# Altium footprint library PROPCB.PcbLib: 4 footprints
Each footprint in its own frame and in the unit in brackets; x right, y up, seen from the top. Pads: shape width x height; smd on the part's side, far side on the other; paste and mask are expansions set on the pad; w line width, h text height; cw(c..) or ccw(c..) is an arc to the next point about the centre after c.
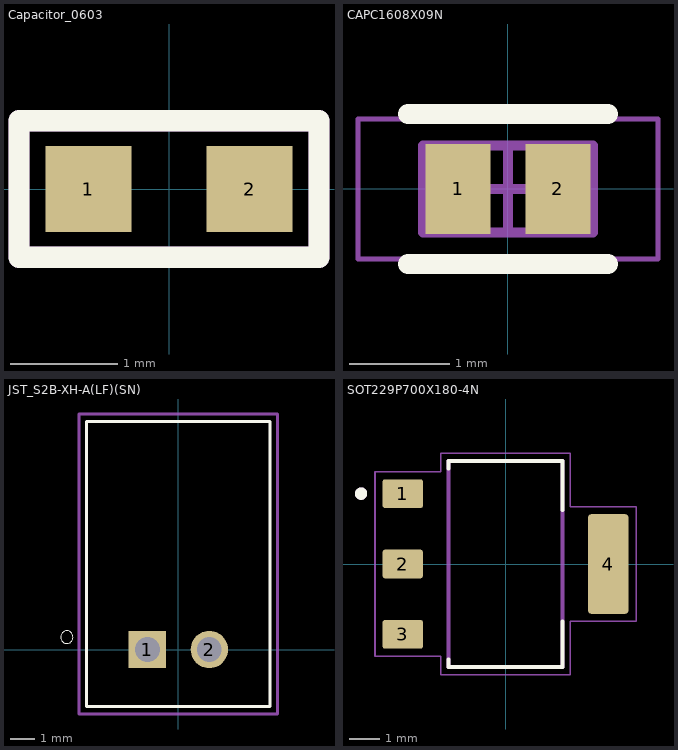
[diagram p0: the footprints below, top view; thin cyan lines are the x and y axes]

## Capacitor_0603 [mm]
pads (2):
  rect 0.8x0.8 smd: 1(-0.75,0) 2(0.75,0)
Top Overlay:
  lines w0.2: -1.397,-0.635 -1.397,0.635 ; -1.397,-0.635 1.397,-0.635 ; -1.397,-0.635 -1.397,0.635 ; -1.397,-0.635 1.397,-0.635 ; -1.397,0.635 1.397,0.635 ; -1.397,0.635 1.397,0.635 ; 1.397,-0.635 1.397,0.635 ; 1.397,-0.635 1.397,0.635
Top Assembly:
  lines w0.2: -1.397,-0.635 -1.397,0.635 ; -1.397,-0.635 1.397,-0.635 ; -1.397,-0.635 -1.397,0.635 ; -1.397,-0.635 1.397,-0.635 ; -1.397,0.635 1.397,0.635 ; -1.397,0.635 1.397,0.635 ; 1.397,-0.635 1.397,0.635 ; 1.397,-0.635 1.397,0.635
  text ".Designator" at -1.501,-0.191 h0.5
3D body "CircuitWorks-CAPACITOR 0603.step": height 0.87, standoff 0.01, extent -0.8,-0.411 0.8,0.449

## CAPC1608X09N [mm] "Chip Capacitor, 2-Leads, Body 1.60x0.80mm, IPC Medium Density"
height 0.87
pads (2):
  rect 0.65x0.9 smd: 1(-0.5,0) 2(0.5,0)
Top Overlay:
  lines w0.2: -1,-0.75 1,-0.75 ; -1,0.75 1,0.75
Top Assembly:
  lines w0.1: -0.85,-0.435 0.85,-0.435 0.85,0.435 -0.85,0.435 -0.85,-0.435
Mechanical 15:
  lines w0.05: -1.5,-0.7 1.5,-0.7 1.5,0.7 -1.5,0.7 -1.5,-0.7
  lines w0.1: -0.435,0 0.435,0 ; 0,-0.435 0,0.435
3D body "CAPC1608X09N.step": height 0.87, standoff 0, extent -0.85,-0.435 0.85,0.435

## JST_S2B-XH-A(LF)(SN) [mm]
pads (2):
  rect 1.508x1.508 / inner round 1.508 / far side rect 1.508x1.508 hole 1: 1(-1.25,0)
  round 1.508 hole 1: 2(1.25,0)
Top Overlay:
  circle w0: c-4.5,0.5 r0.254
  lines w0.127: -3.7,-2.3 3.7,-2.3 3.7,9.2 -3.7,9.2 -3.7,-2.3
Mechanical 15:
  lines w0.127: -4,-2.6 4,-2.6 4,9.5 -4,9.5 -4,-2.6
3D body "step_temp.STEP": height 6.1, standoff -3.4, extent -3.7,-2.356 3.7,9.144

## SOT229P700X180-4N [mm]
height 1.8
pads (4):
  rrect15% 1.31x0.93 smd: 1(-3.345,2.29) 2(-3.345,0) 3(-3.345,-2.29)
  rrect15% 1.31x3.24 smd: 4(3.345,0)
Top Overlay:
  circle w0.2: c-4.703,2.29 r0.1
  lines w0.127: -1.86,-3.11 -1.86,-3.36 1.86,-3.36 1.86,-1.87 ; -1.86,3.1 -1.86,3.36 1.86,3.36 1.86,1.76
Mechanical 13:
  circle w0.2: c-4.703,2.29 r0.1
  lines w0.127: -1.86,-3.36 1.86,-3.36 1.86,3.36 -1.86,3.36 -1.86,-3.36
Mechanical 15:
  lines w0.05: -4.25,-3.01 -4.25,3.01 -2.11,3.01 -2.11,3.61 2.11,3.61 2.11,1.87 4.25,1.87 4.25,-1.87 2.11,-1.87 2.11,-3.61 -2.11,-3.61 -2.11,-3.01 -4.25,-3.01
3D body "step_temp.STEP": height 1.8, standoff 0, extent -3.499,-3.251 3.499,3.251